# Altium footprint library MCU_USB1.PcbLib: 12 footprints
Each footprint in its own frame and in the unit in brackets; x right, y up, seen from the top. Pads: shape width x height; smd on the part's side, far side on the other; paste and mask are expansions set on the pad; w line width, h text height; cw(c..) or ccw(c..) is an arc to the next point about the centre after c.
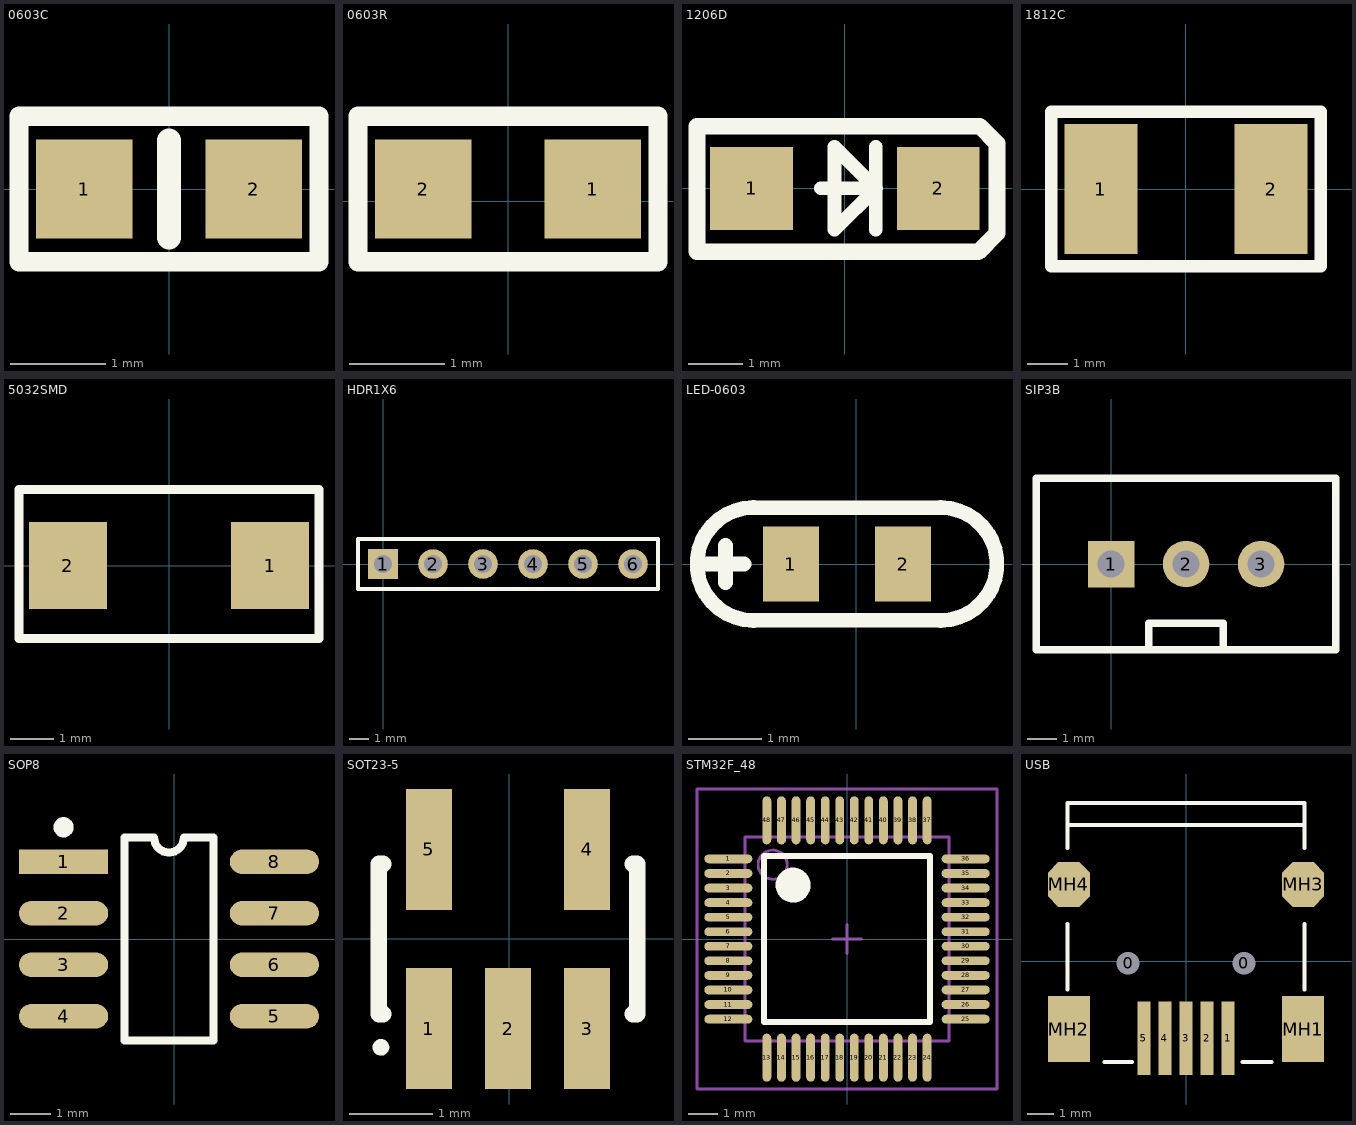
[diagram p0: the footprints below, top view; thin cyan lines are the x and y axes]

## 0603C [mil]
height 200
pads (2):
  rect 40x41 smd: 1(-35,0) 2(35,0)
Top Overlay:
  lines w8: -62,-30 -62,30 62,30 62,-30 -62,-30
  lines w10: 0,-20 0,20
3D body "User Library-cap_0603_lowprofile.STEP": height 23.62, standoff 0, extent -31.49,-15.74 31.5,15.75

## 0603R [mil]
height 104.33
pads (2):
  rect 40x41 smd: 1(35,5) 2(-35,5)
Top Overlay:
  lines w8: -62,-25 -62,35 62,35 62,-25 -62,-25
3D body "R0603.STEP": height 17.72, standoff 0, extent -31.5,-10.75 31.5,20.75

## 1206D [mil] "1206-Diode"
height 200
pads (2):
  rect 60x60 smd: 1(-67.5,0) 2(67.5,0)
Top Overlay:
  lines w10: -17.5,0 22.5,0 ; 22.35,-30 22.35,30 ; 22.5,0 -7.5,30 -7.5,-30 22.5,0
  lines w12: -107,-46 96.5,-46 110,-32.5 110,32.5 97.5,45 -107,45 -107,-46
3D body "SOD123.STEP": height -45, standoff -95, extent -72.83,-31.49 72.84,31.5

## 1812C [mm]
height 10.16
pads (2):
  rect 1.8x3.2 smd: 1(-2.1,0) 2(2.1,0)
Top Overlay:
  lines w0.305: -3.327,-1.905 3.327,-1.905 3.327,1.905 -3.327,1.905 -3.327,-1.905
3D body "1812C.step": height 1.6, standoff 0, extent -2.25,-1.6 2.25,1.6

## 5032SMD [mm]
height 5.08
pads (2):
  rect 1.8x2 smd: 1(2.328,0) 2(-2.328,0)
Top Overlay:
  lines w0.203: -3.454,-1.676 -3.454,1.753 3.454,1.753 3.454,-1.676 -3.454,-1.676
3D body "5032.step": height 1.35, standoff 0, extent -2.475,-1.549 2.525,1.651

## HDR1X6 [mm] "Connector; Header; 6 Position"
height 10.16
pads (6):
  rect 1.5x1.5 hole 0.9: 1(0,0)
  round 1.5 hole 0.9: 2(2.54,0) 3(5.08,0) 4(7.62,0) 5(10.16,0) 6(12.7,0)
Top Overlay:
  lines w0.2: -1.27,-1.27 13.97,-1.27 13.97,1.27 -1.27,1.27 -1.27,-1.27

## LED-0603 [mil]
height 200
pads (2):
  rect 30x40 smd: 1(-35,0) 2(25,0)
Top Overlay:
  lines w7.87: -55,-30.14 cw(c-55,0) -55,30.14 ; -55,-30 45,-30 ; -55,30 45,30 ; 45,-30.14 ccw(c45,0) 45,30.14
  lines w8: -80,0 -60,0 ; -70,-10 -70,10
3D body "User Library-led_0603LED0603 green.STEP": height 23.62, standoff 0, extent -36.89,-15.75 26.89,15.75

## SIP3B [mil]
pads (3):
  rect 62x62 hole 36: 1(0,0)
  round 62 hole 36: 2(100,0) 3(200,0)
Top Overlay:
  lines w10: 50,-114.17 50,-78.74 150,-78.74 150,-114.17 ; -100,-114.17 -100,114.17 300,114.17 300,-114.17 -100,-114.17

## SOP8 [mm]
height 2.65
pads (8):
  rect 2.2x0.6 smd: 1(-2.727,1.905)
  oval 2.2x0.6 smd: 2(-2.727,0.635) 3(-2.727,-0.635) 4(-2.727,-1.905) 5(2.473,-1.905) 6(2.473,-0.635) 7(2.473,0.635) 8(2.473,1.905)
Top Overlay:
  circle w0.25: c-2.727,2.755 r0.125
  lines w0.2: -1.227,-2.5 -1.227,2.5 -0.494,2.5 ccw(c-0.127,2.5) 0.24,2.5 0.973,2.5 0.973,-2.5 -1.227,-2.5
3D body "SO-8.STEP": height 1.7, standoff 0, extent -3.001,-2.45 2.999,2.45

## SOT23-5 [mm]
height 1
pads (5):
  rect 0.55x1.45 smd: 1(-0.966,-1.076) 2(-0.016,-1.076) 3(0.934,-1.076) 4(0.934,1.074) 5(-0.966,1.074)
Top Overlay:
  circle w0.1: c-1.541,-1.301 r0.05
  lines w0.2: -1.516,-0.901 -1.566,-0.901 -1.566,0.899 -1.516,0.899 ; 1.484,-0.901 1.534,-0.901 1.534,0.899 1.484,0.899

## STM32F_48 [mm] "TSQFP, 48-Leads, Body 9.0x9.0mm (max), Pitch 0.50mm, IPC Medium Density"
height 1.6
pads (48):
  oval 1.65x0.3 smd: 1(-4.075,2.75) 2(-4.075,2.25) 3(-4.075,1.75) 4(-4.075,1.25) 5(-4.075,0.75) 6(-4.075,0.25) 7(-4.075,-0.25) 8(-4.075,-0.75) 9(-4.075,-1.25) 10(-4.075,-1.75) 11(-4.075,-2.25) 12(-4.075,-2.75) 25(4.075,-2.75) 26(4.075,-2.25) 27(4.075,-1.75) 28(4.075,-1.25) 29(4.075,-0.75) 30(4.075,-0.25) 31(4.075,0.25) 32(4.075,0.75) 33(4.075,1.25) 34(4.075,1.75) 35(4.075,2.25) 36(4.075,2.75)
  oval 0.3x1.65 smd: 13(-2.75,-4.075) 14(-2.25,-4.075) 15(-1.75,-4.075) 16(-1.25,-4.075) 17(-0.75,-4.075) 18(-0.25,-4.075) 19(0.25,-4.075) 20(0.75,-4.075) 21(1.25,-4.075) 22(1.75,-4.075) 23(2.25,-4.075) 24(2.75,-4.075) 37(2.75,4.075) 38(2.25,4.075) 39(1.75,4.075) 40(1.25,4.075) 41(0.75,4.075) 42(0.25,4.075) 43(-0.25,4.075) 44(-0.75,4.075) 45(-1.25,4.075) 46(-1.75,4.075) 47(-2.25,4.075) 48(-2.75,4.075)
Top Overlay:
  circle w0.6: c-1.85,1.85 r0.3
  lines w0.2: -2.85,-2.85 -2.85,2.85 2.85,2.85 2.85,-2.85 -2.85,-2.85
Mechanical 13:
  circle w0.1: c-2.55,2.55 r0.5
  lines w0.1: -3.5,-3.5 -3.5,3.5 3.5,3.5 3.5,-3.5 -3.5,-3.5
Mechanical 15:
  lines w0.1: -0.5,0 0.5,0 ; 0,-0.5 0,0.5 ; -5.15,-5.15 -5.15,5.15 5.15,5.15 5.15,-5.15 -5.15,-5.15
3D body "LQFP-48.STEP": height 1.59, standoff -0.01, extent -4.5,-4.5 4.5,4.5

## USB [mm]
height 5.08
pads (11):
  round 0.8 hole 0.864 unplated: 0(-2.2,-0.075) 0(2.2,-0.075)
  rect 0.5x2.8 smd: 1(1.6,-2.925) 2(0.8,-2.925) 3(0,-2.925) 4(-0.8,-2.925) 5(-1.6,-2.925)
  rect 1.6x2.5 smd: MH1(4.45,-2.575) MH2(-4.45,-2.575)
  oct 1.6x1.7 smd: MH3(4.45,2.925) MH4(-4.45,2.925)
Top Overlay:
  lines w0.152: -4.5,5.875 -4.5,4.315 -4.5,6.025 4.5,6.025 4.5,4.315 4.5,5.875 ; -4.5,-1.075 -4.5,1.425 -4.5,-1.075 ; -4.5,5.175 4.5,5.175 -4.5,5.175 ; -3.1,-3.825 -2.06,-3.825 -3.1,-3.825 ; 2.15,-3.825 3.25,-3.825 2.15,-3.825 ; 4.5,-1.075 4.5,1.425 4.5,-1.075